# Altium schematic symbol library SCH - MISC - PushButton_LED_P16-TF-R.SCHLIB: 2 symbols
Pins are listed as number, name and electrical type; pins without a type are passive.

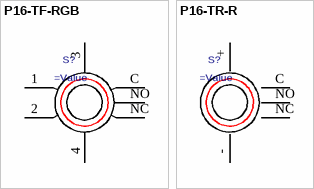
[diagram p0: symbols P16-TF-RGB to P16-TR-R]

## P16-TF-RGB
designator S?
stainless steel push button 0.63 inch flat; RGB
pins: 1, 2, 3, 4, C, NC, NO

## P16-TR-R
designator S?
stainless steel push button 0.63 inch flat; red led
pins: +, -, C, NC, NO